# Altium schematic symbol library TSW-104-05-T-S.SchLib: 1 symbol
Pins are listed as number, name and electrical type; pins without a type are passive.

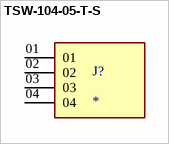
[diagram p0: symbol TSW-104-05-T-S]

## TSW-104-05-T-S
designator J?
MP: TSW-104-05-T-S; MF: {'manufacturer': u'Samtec'}; Price: None; Package: None; Value: *; Availability: Unavailable
footprint SAMTEC_TSW-104-05-T-S
pins: 01, 02, 03, 04